# Altium footprint library IRLR2705PBF.PcbLib: 1 footprints
Each footprint in its own frame and in the unit in brackets; x right, y up, seen from the top. Pads: shape width x height; smd on the part's side, far side on the other; paste and mask are expansions set on the pad; w line width, h text height; cw(c..) or ccw(c..) is an arc to the next point about the centre after c.
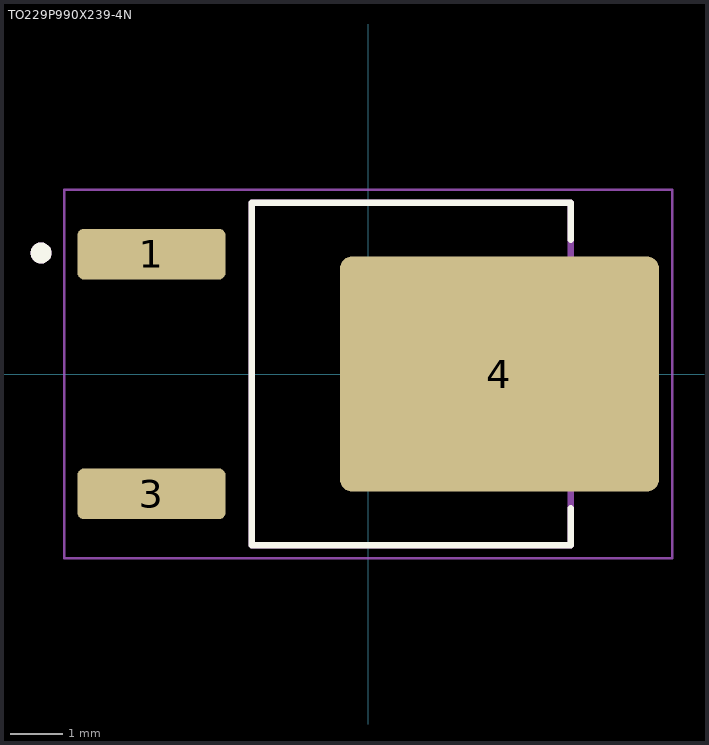
[diagram p0: the footprint, top view; thin cyan lines are the x and y axes]

## TO229P990X239-4N [mm]
pads (3):
  rrect25% 2.83x0.97 smd: 1(-4.14,2.29) 3(-4.14,-2.29)
  rrect10% 6.1x4.49 smd paste-4: 4(2.51,0)
Top Overlay:
  circle w0.2: c-6.25,2.312 r0.1
  lines w0.127: 3.872,-2.565 3.872,-3.27 -2.222,-3.27 -2.222,3.27 3.872,3.27 3.872,2.565
Mechanical 13:
  circle w0.2: c-6.25,2.312 r0.1
  lines w0.127: -2.222,-3.27 -2.222,3.27 3.872,3.27 3.872,-3.27 -2.222,-3.27
Mechanical 15:
  lines w0.05: -5.805,-3.52 -5.805,3.52 5.81,3.52 5.81,-3.52 -5.805,-3.52
3D body "step_temp.STEP": height 2.39, standoff -0.13, extent -4.952,-3.27 4.952,3.27